# Altium footprint library CAP-TH_BD21.0-P5.00-D0.8_CENXXX-CF (1).PcbLib: 1 footprints
Each footprint in its own frame and in the unit in brackets; x right, y up, seen from the top. Pads: shape width x height; smd on the part's side, far side on the other; paste and mask are expansions set on the pad; w line width, h text height; cw(c..) or ccw(c..) is an arc to the next point about the centre after c.
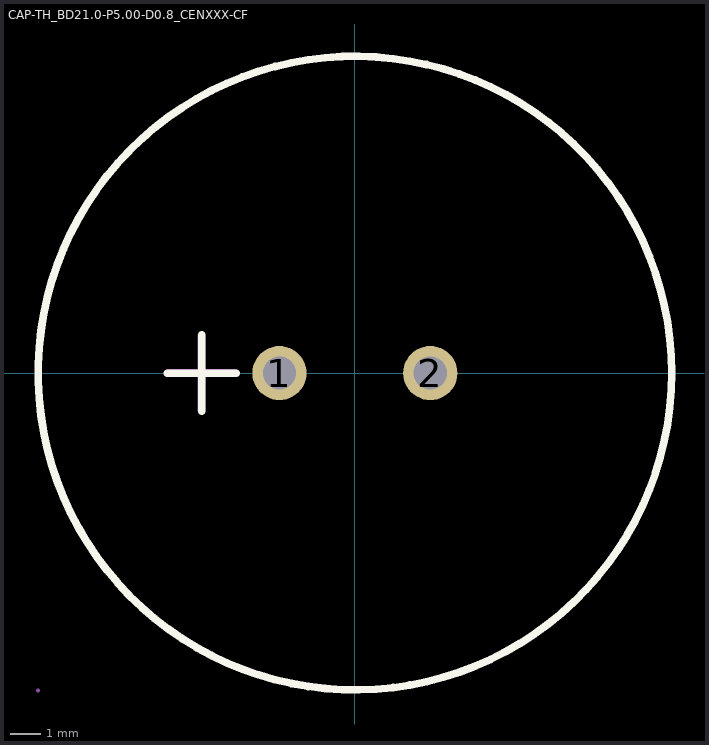
[diagram p0: the footprint, top view; thin cyan lines are the x and y axes]

## CAP-TH_BD21.0-P5.00-D0.8_CENXXX-CF [mm]
pads (2):
  round 1.8 hole 1.1 paste-2539.97 mask+0.05: 1(-2.5,0) 2(2.5,0)
Top Overlay:
  circle w0.254: c0,0 r10.5
  lines w0.254: -6.223,0 -3.937,0 ; -5.08,-1.27 -5.08,1.27
Mechanical 6:
  region: -6.223,-0.127 -6.223,0.127 -5.207,0.127 -5.207,1.27 -4.953,1.27 -4.953,0.127 -3.937,0.127 -3.937,-0.127 -4.953,-0.127 -4.953,-1.27 -5.207,-1.27 -5.207,-0.127
Mechanical 15:
  region: -10.44,-10.516 -10.44,-10.491 -10.475,-10.456 -10.525,-10.456 -10.56,-10.492 -10.56,-10.516 -10.56,-10.541 -10.525,-10.576 -10.475,-10.576 -10.44,-10.541 -10.44,-10.516
  region: -2.1,0 -2.101,0.079 -2.162,0.225 -2.274,0.337 -2.421,0.397 -2.579,0.397 -2.726,0.337 -2.838,0.225 -2.899,0.079 -2.9,0 -2.899,-0.079 -2.838,-0.225 -2.725,-0.337 -2.579,-0.397 -2.421,-0.397 -2.274,-0.337 -2.162,-0.225 -2.101,-0.079 -2.1,0
  region: 2.9,0 2.899,0.079 2.838,0.225 2.726,0.337 2.579,0.397 2.421,0.397 2.274,0.337 2.162,0.225 2.101,0.079 2.1,0 2.101,-0.079 2.162,-0.225 2.274,-0.337 2.421,-0.397 2.579,-0.397 2.726,-0.337 2.838,-0.225 2.899,-0.079 2.9,0
  lines w0.051: -10.5,0 ccw(c0,-0.016) 10.5,0 ccw(c0,0.016) -10.5,0